# EAGLE library part BABEL (library zubax_modules)
https://zubax.com/products/babel
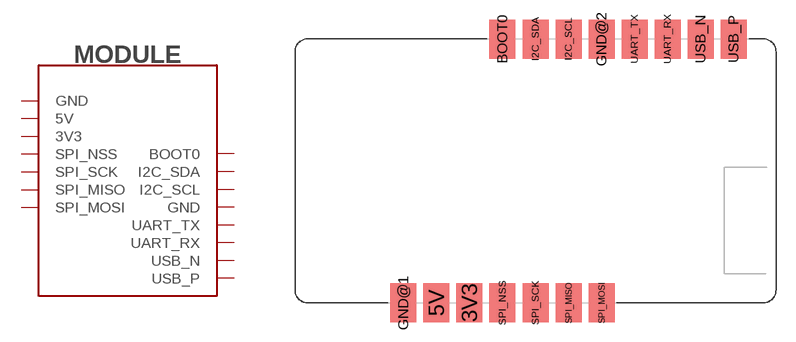
[diagram p1: symbol with the pads of BABEL; footprint BABEL]

Designator prefix MODULE

## BABEL  [BABEL]
3V3  3V3
5V  5V
BOOT0  BOOT0
GND@1  GND
GND@2  GND
I2C_SCL  I2C_SCL
I2C_SDA  I2C_SDA
SPI_MISO  SPI_MISO
SPI_MOSI  SPI_MOSI
SPI_NSS  SPI_NSS
SPI_SCK  SPI_SCK
UART_RX  UART_RX
UART_TX  UART_TX
USB_N  USB_N
USB_P  USB_P

## Footprint BABEL (pad centres in mm)
smd 2 x 3: 3V3 -5.08,-10.16; 5V -7.62,-10.16; BOOT0 -2.54,10.14; GND@1 -10.16,-10.16; GND@2 5.08,10.14; I2C_SCL 2.54,10.14; I2C_SDA 0,10.14; SPI_MISO 2.54,-10.16; SPI_MOSI 5.08,-10.16; SPI_NSS -2.54,-10.16; SPI_SCK 0,-10.16; UART_RX 10.16,10.14; UART_TX 7.62,10.14; USB_N 12.7,10.14; USB_P 15.24,10.14